# Altium schematic symbol library diapers_1.SCHLIB: 21 symbols
Pins are listed as number, name and electrical type; pins without a type are passive.

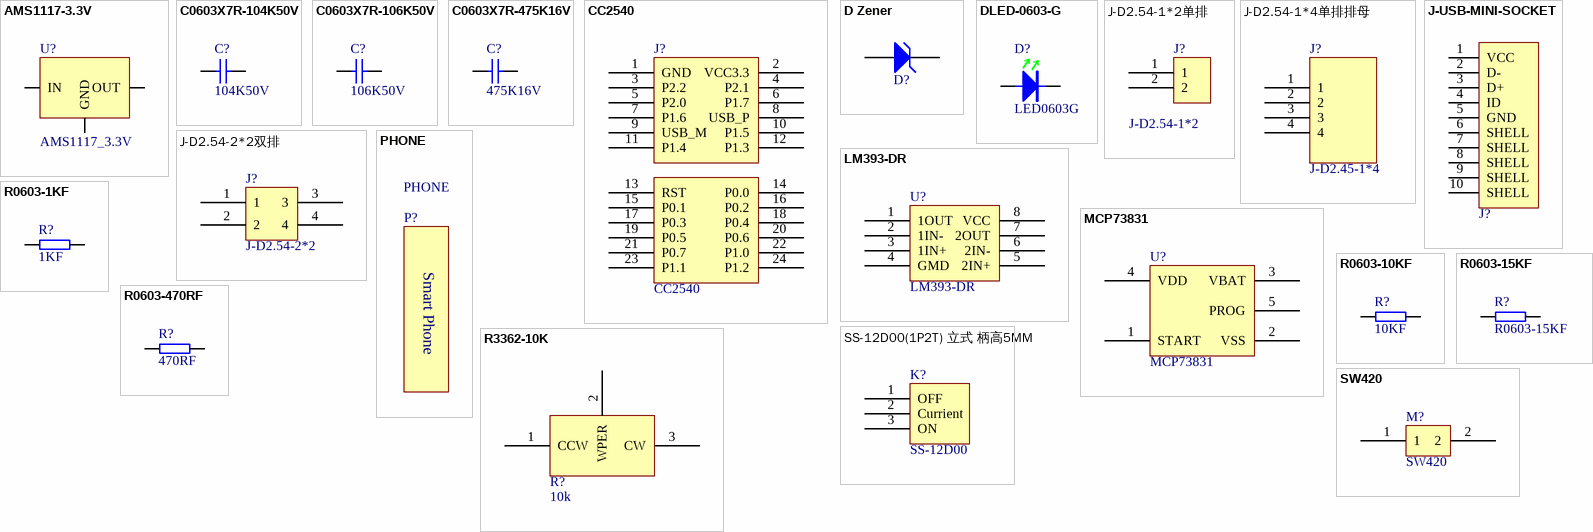
[diagram p0: symbols AMS1117-3.3V to SW420]

## AMS1117-3.3V
designator U?, comment AMS1117_3.3V
footprint SOT-223
pins: 1 GND, 2 OUT, 3 IN

## C0603X7R-104K50V
designator C?, comment 104K50V
贴片电容-陶瓷; 规格型号: 100nF±10%_50V_X7R_C0603; 生产商: 风华 三星; 供应商: *; 备注: *
footprint C0603
pins: 1, 2

## C0603X7R-106K50V
designator C?, comment 106K50V
贴片电容-陶瓷; 规格型号: 10uF±10%_50V_X7R_C0603; 生产商: 风华 三星; 供应商: *; 备注: *
footprint C0603
pins: 1, 2

## C0603X7R-475K16V
designator C?, comment 475K16V
贴片电容-陶瓷; 规格型号: 4.7uF±10%_16V_X7R_C0603; 生产商: 风华 三星; 供应商: *; 备注: *
footprint C0603
pins: 1, 2

## CC2540
designator J?
蓝牙主控模块的接口
footprint PCBComponent_1 (Footprint not found)
pins: 1 GND, 2 VCC3.3, 3 P2.2, 4 P2.1, 5 P2.0, 6 P1.7, 7 P1.6, 8 USB_P, 9 USB_M, 10 P1.5, 11 P1.4, 12 P1.3, 13 RST, 14 P0.0, 15 P0.1, 16 P0.2, 17 P0.3, 18 P0.4, 19 P0.5, 20 P0.6, 21 P0.7, 22 P1.0, 23 P1.1, 24 P1.2

## D Zener
designator D?, comment ESDA_TR1/0603  (value not drawn)
Zener Diode; Published: *; LatestRevisionDate: *; LatestRevisionNote: *; PackageReference: *; Publisher: *
footprint HS_0603D
pins: 1 A, 2 K
2 alternate drawings of the same symbol

## DLED-0603-G
designator D?, comment LED0603G
贴片二极管-LED; 规格型号: 0603-GREEN; 货品编码: 无样品无编码; 生产商: *; 供应商: *; 备注: *
footprint D-LED0603G
pins: 1, 2

## J-D2.54-1*2单排
designator J?, comment J-D2.54-1*2
footprint D2.54-1*2P
pins: 1, 2

## J-D2.54-1*4单排排母
designator J?, comment J-D2.45-1*4
footprint D2.54-1*4P (Bluetooth)
pins: 1, 2, 3, 4

## J-D2.54-2*2双排
designator J?, comment J-D2.54-2*2
双排排针-直针
footprint D2.54-2*2P (DUAL_ROW_Pin_R2.54-5P)
pins: 1, 2, 3, 4

## J-USB-MINI-SOCKET
designator J?, comment USB-MINI-SOCKET  (value not drawn)
USB-A卧式插座; 供应商: *; 备注: *
footprint MICRO-USB - 5.9
pins: 1 VCC, 2 D-, 3 D+, 4 ID, 5 GND, 6 SHELL, 7 SHELL, 8 SHELL, 9 SHELL, 10 SHELL

## LM393-DR
designator U?
双路比较器
footprint LM393 (SOP, 8-Leads, Body 4.90x3.90mm, Pitch 1.27mm, IPC Medium Density)
pins: 1 1OUT, 2 1IN-, 3 1IN+, 4 GMD, 5 2IN+, 6 2IN-, 7 2OUT, 8 VCC

## MCP73831
designator U?
charge IC
footprint SOT23-5N (SOT23, 5-Leads, Body 2.90x2.70mm, Pitch 0.95mm, IPC Medium Density)
pins: 1 START, 2 VSS, 3 VBAT, 4 VDD, 5 PROG

## PHONE
designator P?
text: Smart Phone

## R0603-1KF
designator R?, comment 1KF
贴片电阻-通用; 生产商: 厚声 国巨; 规格型号: 1K±1%_1/10W_±200ppm_R0603; 货品编码: 无样品无编码; 备注: *; 供应商: *
footprint R0603
pins: 1, 2

## R0603-10KF
designator R?, comment 10KF
贴片电阻-通用; 生产商: 厚声 国巨; 规格型号: 10K±1%_1/10W_±200ppm_R0603; 备注: *; 供应商: *
footprint R0603
pins: 1, 2

## R0603-15KF
designator R?
贴片电容-通用
footprint R0603
pins: 1, 2

## R0603-470RF
designator R?, comment 470RF
贴片电阻-通用; 生产商: 厚声 国巨; 规格型号: 470R±1%_1/10W_±200ppm_R0603; 货品编码: 无样品无编码; 备注: *; 供应商: *
footprint R0603
pins: 1, 2

## R3362-10K
designator R?, comment 10k
电位器精密可调电阻
footprint R3326P (电位器精密可调电阻)
pins: 1 CCW, 2 WPER, 3 CW

## SS-12D00(1P2T) 立式 柄高5MM
designator K?, comment SS-12D00
footprint SS-12D00 (SS-12D00(1P2T) 立式 柄高5MM)
pins: 1 OFF, 2 Currient, 3 ON

## SW420
designator M?
长闭震动开关
footprint SW420 (常闭型 振动开关SW-420 高灵敏震动开关2708全方位感应传感器)
pins: 1, 2